# Altium footprint library blueTooth.PcbLib: 3 footprints
Each footprint in its own frame and in the unit in brackets; x right, y up, seen from the top. Pads: shape width x height; smd on the part's side, far side on the other; paste and mask are expansions set on the pad; w line width, h text height; cw(c..) or ccw(c..) is an arc to the next point about the centre after c.
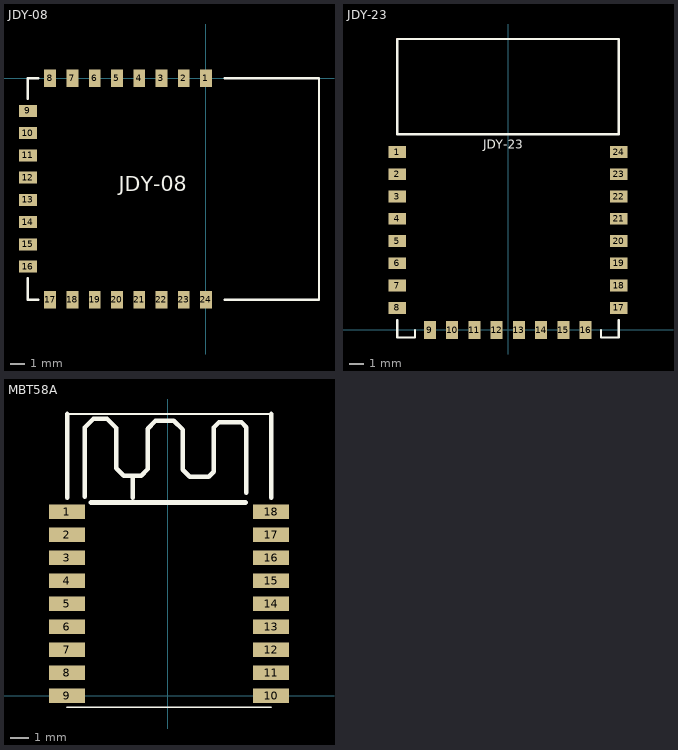
[diagram p0: the footprints below, top view; thin cyan lines are the x and y axes]

## JDY-08 [mm]
pads (24):
  rect 0.8x1.2 smd: 1(0,0) 2(-1.5,0) 3(-3,0) 4(-4.5,0) 5(-6,0) 6(-7.5,0) 7(-9,0) 8(-10.5,0) 17(-10.5,-14.935) 18(-9,-14.935) 19(-7.5,-14.935) 20(-6,-14.935) 21(-4.5,-14.935) 22(-3,-14.935) 23(-1.5,-14.935) 24(0,-14.935)
  rect 1.2x0.8 smd: 9(-12,-2.202) 10(-12,-3.702) 11(-12,-5.202) 12(-12,-6.702) 13(-12,-8.202) 14(-12,-9.702) 15(-12,-11.202) 16(-12,-12.702)
Top Overlay:
  lines w0.16: -12,-13.462 -12,-14.935 -11.303,-14.935 ; -12,-1.397 -12,0 -11.303,0 ; 1.27,-14.935 7.615,-14.935 7.615,-1.905 7.615,0 1.27,0
  text "JDY-08" at -5.869,-7.604 h1

## JDY-23 [mm]
pads (24):
  rect 1.2x0.8 smd: 1(-7.468,11.969) 2(-7.468,10.469) 3(-7.468,8.969) 4(-7.468,7.469) 5(-7.468,5.969) 6(-7.468,4.469) 7(-7.468,2.969) 8(-7.468,1.469) 17(7.468,1.469) 18(7.468,2.969) 19(7.468,4.469) 20(7.468,5.969) 21(7.468,7.469) 22(7.468,8.969) 23(7.468,10.469) 24(7.468,11.969)
  rect 0.8x1.2 smd: 9(-5.265,-0.031) 10(-3.765,-0.031) 11(-2.265,-0.031) 12(-0.765,-0.031) 13(0.735,-0.031) 14(2.235,-0.031) 15(3.735,-0.031) 16(5.235,-0.031)
Top Layer:
  lines w0.16: -7.468,19.584 -5.563,19.584
Top Overlay:
  lines w0.16: -7.468,0.635 -7.468,-0.531 -6.268,-0.531 -6.268,-0.031 ; 6.268,-0.031 6.268,-0.531 7.468,-0.531 7.468,0.635 ; -7.468,13.157 -7.468,14.529 -7.468,19.584 5.563,19.584 7.468,19.584 7.468,13.157 -7.468,13.157
  text "JDY-23" at -1.651,12.192 h0.6
3D body "jy-23.stp": height 1.4, standoff 0, extent -7.45,0 7.45,19.6

## MBT58A [mm]
pads (18):
  rect 2x0.8 smd: 1(-5.577,10.164) 2(-5.577,8.894) 3(-5.577,7.624) 4(-5.577,6.354) 5(-5.577,5.084) 6(-5.577,3.814) 7(-5.577,2.544) 8(-5.577,1.274) 9(-5.577,0.004) 10(5.7,-0.008) 11(5.7,1.262) 12(5.7,2.532) 13(5.7,3.802) 14(5.7,5.072) 15(5.7,6.342) 16(5.7,7.612) 17(5.7,8.882) 18(5.7,10.152)
Top Overlay:
  lines w0.1: -5.57,-0.638 5.709,-0.638 ; -5.57,15.556 5.709,15.556 ; -5.564,-0.635 5.708,-0.635 ; -5.564,15.554 5.708,15.554
  lines w0.254: -5.564,10.922 -5.564,15.554 ; -4.587,10.992 -4.587,14.809 -4.105,15.291 -3.362,15.291 -2.851,14.781 -2.851,12.567 -2.44,12.155 -1.478,12.155 -1.116,12.517 -1.116,14.752 -0.686,15.182 0.334,15.182 0.819,14.697 0.819,12.481 1.201,12.099 2.26,12.099 2.536,12.375 2.536,14.809 2.824,15.097 4.066,15.097 4.338,14.825 4.338,11.204 ; -4.247,10.668 4.298,10.668 ; -1.947,10.922 -1.947,12.027 ; 5.709,10.928 5.709,15.556
3D body "mbt58a.stp": height 2.1, standoff 0, extent -5.513,-0.602 5.767,15.588